# Altium footprint library DIODE_TH_2.PcbLib: 1 footprints
Each footprint in its own frame and in the unit in brackets; x right, y up, seen from the top. Pads: shape width x height; smd on the part's side, far side on the other; paste and mask are expansions set on the pad; w line width, h text height; cw(c..) or ccw(c..) is an arc to the next point about the centre after c.
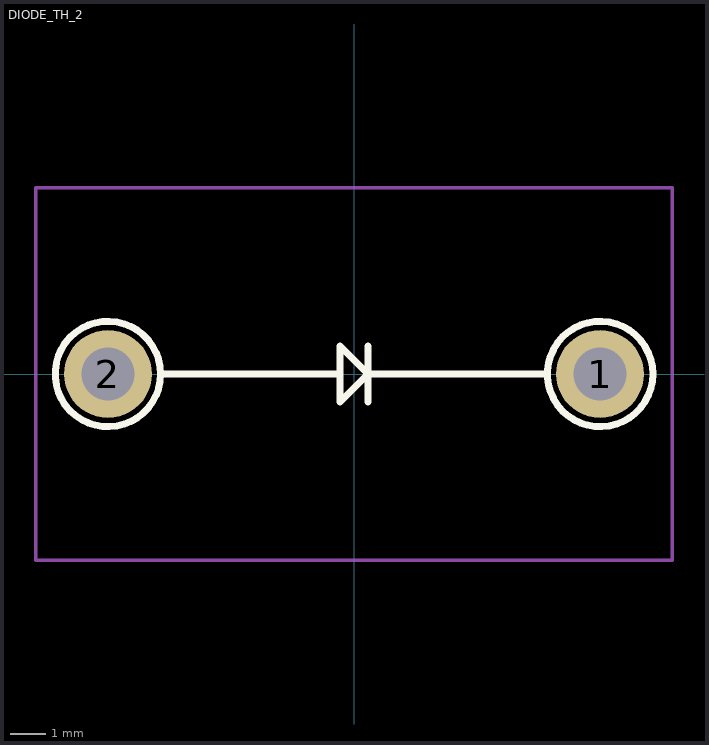
[diagram p0: the footprint, top view; thin cyan lines are the x and y axes]

## DIODE_TH_2 [mm]
pads (2):
  round 2.5 hole 1.5: 1(7,0) 2(-7,0)
Top Overlay:
  circle w0.2: c-7,0 r1.5
  circle w0.2: c7,0 r1.5
  lines w0.2: -5.5,0 -0.4,0 ; 0.4,-0.8 0.4,0.8 ; 5.5,0 0.4,0 ; -0.4,0.8 -0.4,-0.8 0.4,0 ; -0.4,0.8 0.4,0 ; -0.4,0.8 -0.4,0.8 ; 0.4,0 0.4,0
Top Courtyard:
  lines w0.1: -9.05,-5.3 -9.05,0.225 -9.05,5.3 9.05,5.3 9.05,-5.3 -9.05,-5.3
3D body: height 9, standoff 0, extent -5,-4.5 5,4.5